# EAGLE library part RAYTAC-MDBT40 (library GClueBT)
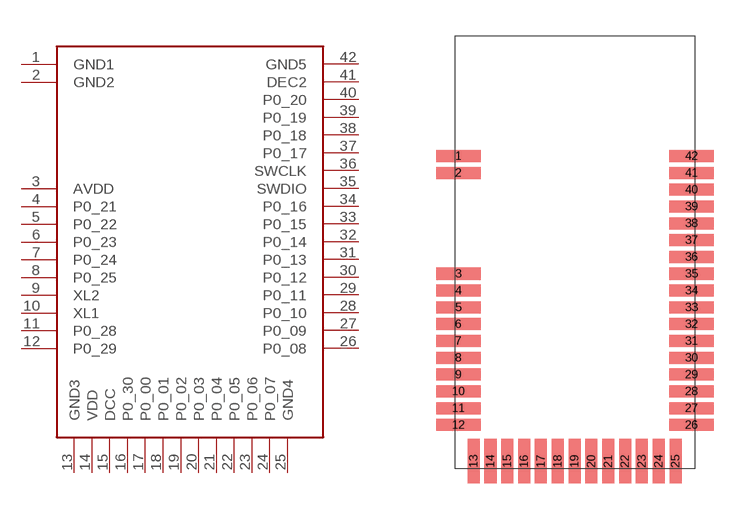
[diagram p5: symbol with the pads of RAYTAC-MDBT40; footprint RAYTAC-MDBT40]

Designator prefix -

## RAYTAC-MDBT40  [RAYTAC-MDBT40]
1  GND1
2  GND2
3  AVDD
4  P0_21
5  P0_22
6  P0_23
7  P0_24
8  P0_25
9  XL2
10  XL1
11  P0_28
12  P0_29
13  GND3
14  VDD
15  DCC
16  P0_30
17  P0_00
18  P0_01
19  P0_02
20  P0_03
21  P0_04
22  P0_05
23  P0_06
24  P0_07
25  GND4
26  P0_08
27  P0_09
28  P0_10
29  P0_11
30  P0_12
31  P0_13
32  P0_14
33  P0_15
34  P0_16
35  SWDIO
36  SWCLK
37  P0_17
38  P0_18
39  P0_19
40  P0_20
41  DEC2
42  GND5

## Footprint RAYTAC-MDBT40 (pad centres in mm)
smd 1.85 x 0.5: 1 -4.86,4; 2 -4.86,3.3; 3 -4.86,-0.9; 4 -4.86,-1.6; 5 -4.86,-2.3; 6 -4.86,-3; 7 -4.86,-3.7; 8 -4.86,-4.4; 9 -4.86,-5.1; 10 -4.86,-5.8; 11 -4.86,-6.5; 12 -4.86,-7.2; 26 4.84,-7.2; 27 4.84,-6.5; 28 4.84,-5.8; 29 4.84,-5.1; 30 4.84,-4.4; 31 4.84,-3.7; 32 4.84,-3; 33 4.84,-2.3; 34 4.84,-1.6; 35 4.84,-0.9; 36 4.84,-0.2; 37 4.84,0.5; 38 4.84,1.2; 39 4.84,1.9; 40 4.84,2.6; 41 4.84,3.3; 42 4.84,4
smd 0.5 x 1.85: 13 -4.22,-8.71; 14 -3.52,-8.71; 15 -2.82,-8.71; 16 -2.12,-8.71; 17 -1.42,-8.71; 18 -0.72,-8.71; 19 -0.02,-8.71; 20 0.68,-8.71; 21 1.38,-8.71; 22 2.08,-8.71; 23 2.78,-8.71; 24 3.48,-8.71; 25 4.18,-8.71